# Altium footprint library Demo_Board_library_PCB.PcbLib: 41 footprints (part 1 of 3)
Each footprint in its own frame and in the unit in brackets; x right, y up, seen from the top. Pads: shape width x height; smd on the part's side, far side on the other; paste and mask are expansions set on the pad; w line width, h text height; cw(c..) or ccw(c..) is an arc to the next point about the centre after c.
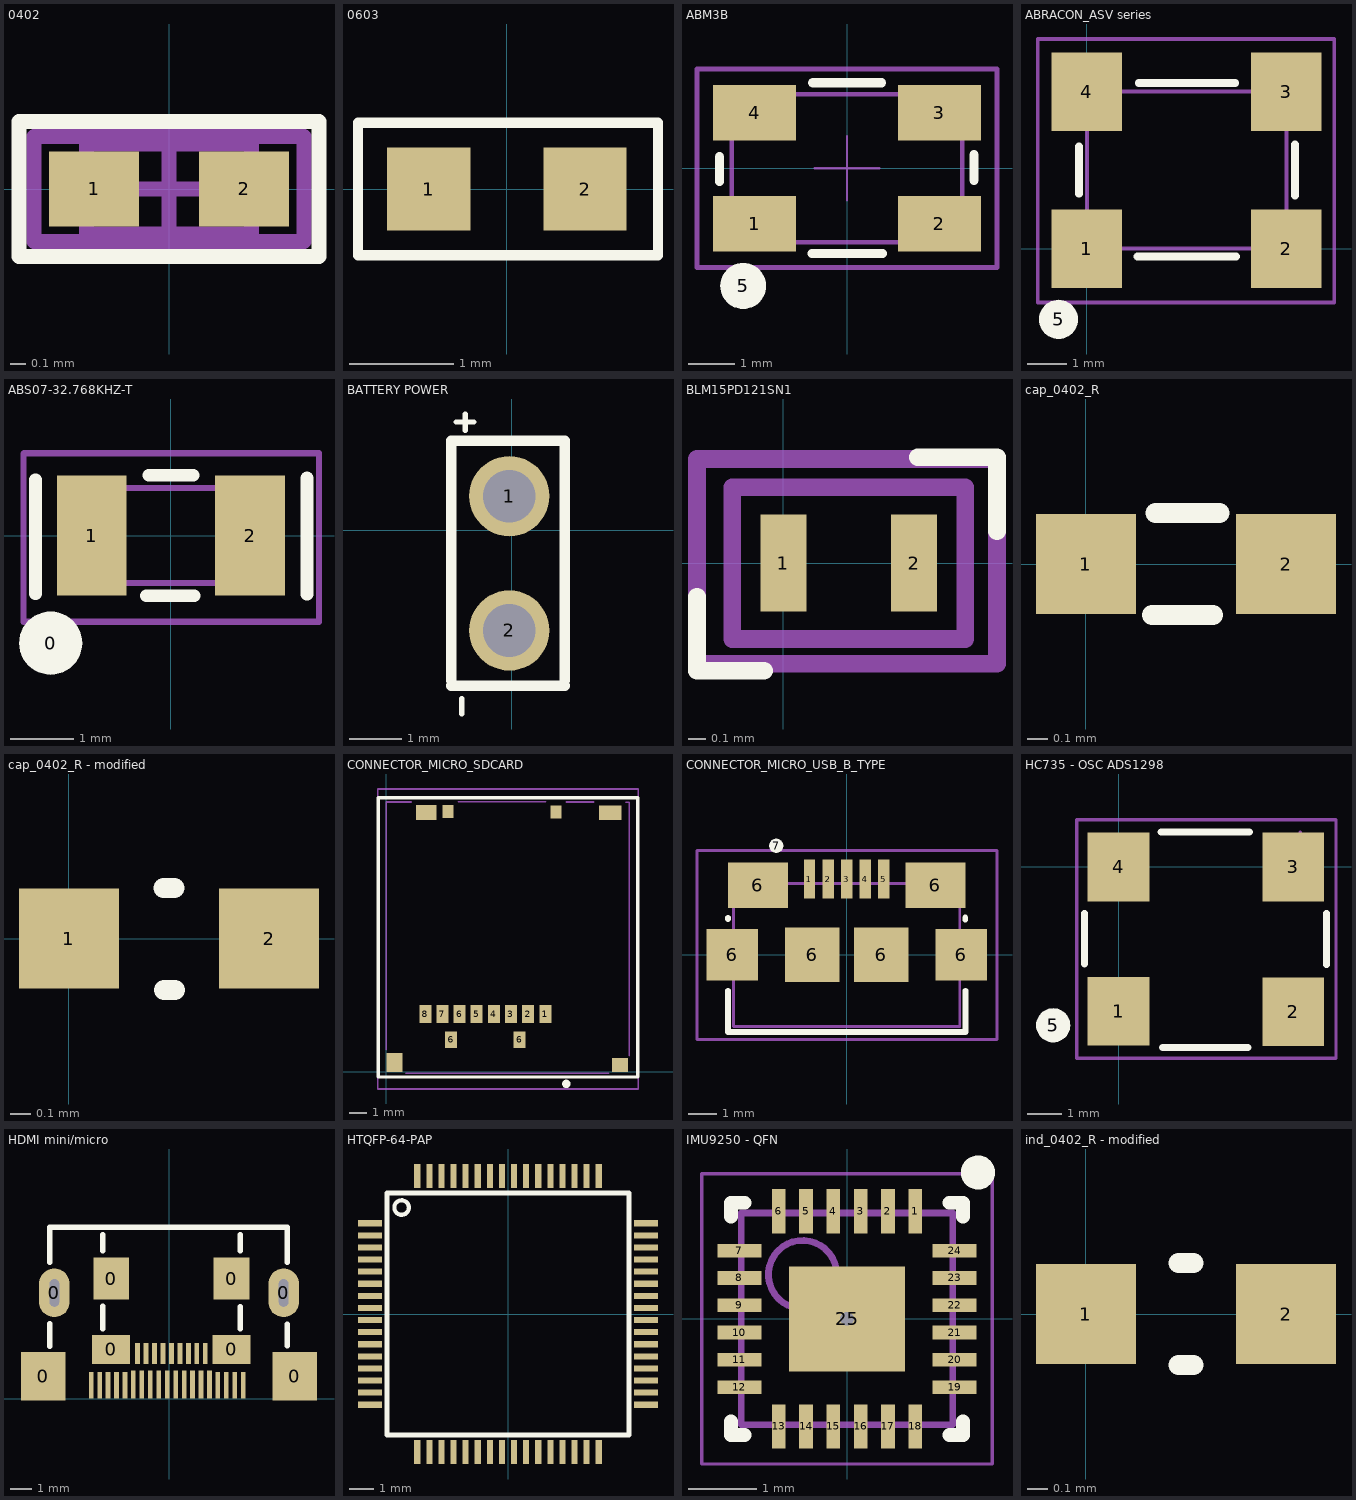
[diagram p0: the footprints below, top view; thin cyan lines are the x and y axes]

## 0402 [mm] "Chip Capacitor, Body 1.0x0.5mm, IPC High Density"
height 1.3
pads (2):
  rect 0.6x0.5 smd: 1(-0.5,0) 2(0.5,0)
Top Overlay:
  lines w0.1: -1,-0.45 -1,0.45 1,0.45 1,-0.45 -1,-0.45
Mechanical 13:
  lines w0.1: -0.55,-0.3 -0.55,0.3 0.55,0.3 0.55,-0.3 -0.55,-0.3
Mechanical 15:
  lines w0.1: -0.3,0 0.3,0 ; 0,-0.3 0,0.3 ; -0.9,-0.35 -0.9,0.35 0.9,0.35 0.9,-0.35 -0.9,-0.35
3D body: height 1.3, standoff 0, extent -0.55,-0.3 0.55,0.3

## 0603 [mm]
pads (2):
  rect 0.8x0.8 smd: 1(-0.75,0) 2(0.75,0)
Top Overlay:
  lines w0.1: -1.428,-0.635 -1.428,0.635 1.45,0.635 1.45,-0.635 -1.428,-0.635

## ABM3B [mm] "Footprint oscillatore ABM3B-8.000MHZ-B2-T del micro"
pads (5):
  rect 1.8x1.2 smd mask+0.2: 1(-2,-1.2) 2(2,-1.2) 3(2,1.2) 4(-2,1.2)
  round 1 on Top Overlay mask+0.2: 5(-2.25,-2.55)
Top Overlay:
  lines w0.2: -2.76,-0.29 -2.76,0.25 ; -0.76,-1.85 0.77,-1.85 ; -0.74,1.85 0.75,1.85 ; 2.75,-0.26 2.75,0.29
Mechanical 13:
  lines w0.1: -2.5,-1.6 2.5,-1.6 2.5,1.6 0.05,1.6 -2.5,1.6 -2.5,-1.6
Mechanical 15:
  lines w0.05: -0.7,0 0,0 ; 0,-0.7 0,0 ; 0,0.7 0,0 ; 0.7,0 0,0
  lines w0.1: -3.25,-2.15 -3.25,2.15 3.25,2.15 3.25,1.79 3.25,-2.15 -3.25,-2.15
3D body: height 1.1, standoff 0, extent -2.499,-1.599 2.499,1.599

## ABRACON_ASV series [mm] "Oscillatore CEREBRO"
pads (5):
  rect 1.8x2 smd mask+0.2: 1(0,0) 2(5.08,0) 3(5.08,4) 4(0,4)
  round 1 on Top Overlay mask+0.2: 5(-0.72,-1.8)
Top Overlay:
  lines w0.2: -0.2,1.4 -0.2,2.6 ; 1.29,-0.2 3.8,-0.2 ; 1.32,4.22 3.78,4.22 ; 5.3,1.35 5.3,2.65
Mechanical 13:
  lines w0.1: 0,0 0,4 5.08,4 5.08,0 0,0
Mechanical 15:
  lines w0.1: -1.25,-1.37 -1.25,5.34 6.3,5.34 6.3,-1.37 4.485,-1.37 0.415,-1.37 -1.25,-1.37
3D body: height 1.8, standoff 0, extent -0.05,-0.05 5.13,4.05

## ABS07-32.768KHZ-T [mm] "ABS07-32.768KHZ-T per micro"
pads (3):
  round 1 on Top Overlay mask+0.2: 0(-1.9,-1.7)
  rect 1.1x1.9 smd mask+0.2: 1(-1.25,0) 2(1.25,0)
Top Overlay:
  lines w0.2: -2.14,-0.92 -2.14,0.88 ; -0.39,-0.95 0.37,-0.95 ; -0.35,0.95 0.35,0.95 ; 2.15,-0.93 2.15,0.91
Mechanical 13:
  lines w0.1: -1.25,-0.75 1.25,-0.75 1.25,0.75 -1.25,0.75 -1.25,0 -1.25,-0.75
Mechanical 15:
  lines w0.1: 2.33,-1.36 2.34,-1.36 ; 2.34,-1.36 -2.33,-1.36 -2.33,1.29 -2.32,1.3 2.34,1.3 2.34,-1.36

## BATTERY POWER [mm]
pads (2):
  round 1.524 hole 1: 1(-0.05,0.65) 2(-0.05,-1.9)
Top Overlay:
  lines w0.1: -1.056,2.058 -0.726,2.058 ; -0.955,-3.486 -0.955,-3.196 ; -0.889,1.902 -0.889,2.21
  lines w0.2: -1.15,-2.95 1,-2.95 ; -1.15,-2.85 -1.15,1.7 1,1.7 1,-2.85

## BLM15PD121SN1 [mm] "Chip Inductor, 2-Leads, Body 1,00x0,50mm, IPC Medium Density"
height 0.55
pads (2):
  rect 0.26x0.55 smd mask+0.1: 1(0,0) 2(0.74,0)
Top Overlay:
  lines w0.1: -0.49,-0.19 -0.49,-0.61 -0.11,-0.61 ; 0.76,0.6 1.21,0.6 1.21,0.18
Mechanical 13:
  lines w0.1: -0.29,-0.43 1.03,-0.43 1.03,0.26 1.03,0.43 -0.29,0.43 -0.29,0.02 -0.29,0 -0.29,-0.43
Mechanical 15:
  lines w0.1: -0.49,-0.57 1.21,-0.57 1.21,0.59 -0.49,0.59 -0.49,-0.57

## cap_0402_R [mm] "0402_R"
height 0.35
pads (2):
  rect 0.5x0.5 smd paste-0.05: 1(0,0) 2(1,0)
Top Overlay:
  lines w0.1: 0.329,-0.254 0.635,-0.254 ; 0.348,0.254 0.666,0.254
3D body: height 0.5, standoff 0, extent -0.127,-0.254 0.051,0.254
3D body: height 0.5, standoff 0, extent 0.051,-0.254 0.965,0.254
3D body: height 0.5, standoff 0, extent 0.965,-0.254 1.143,0.254

## cap_0402_R - modified [mm] "0402_R"
height 0.35
pads (2):
  rect 0.5x0.5 smd paste-0.05: 1(0,0) 2(1,0)
Top Overlay:
  lines w0.1: 0.472,0.254 0.528,0.254 ; 0.474,-0.258 0.53,-0.258
3D body: height 0.5, standoff 0, extent -0.127,-0.254 0.051,0.254
3D body: height 0.5, standoff 0, extent 0.051,-0.254 0.965,0.254
3D body: height 0.5, standoff 0, extent 0.965,-0.254 1.143,0.254

## CONNECTOR_MICRO_SDCARD [mm] "Connector micro sd with switches and fly out protection"
pads (17):
  rect 0.7x1.05 smd mask+0.2: 1(9.275,3.375) 2(8.275,3.375) 3(7.275,3.375) 4(6.275,3.375) 5(5.275,3.375) 6(4.275,3.375) 7(3.275,3.375) 8(2.275,3.375)
  rect 0.7x0.95 smd mask+0.1: 6(3.775,1.875) 6(7.775,1.875)
  round 0.5 on Top Overlay mask+0.2: 10(10.5,-0.7)
  rect 0.95x1.1 smd mask+0.1: ""(0.475,0.55)
  rect 1.2x0.85 smd mask+0.2: ""(2.32,15.13)
  rect 0.65x0.75 smd mask+0.2: ""(3.59,15.18) ""(9.91,15.16)
  rect 1.3x0.85 smd mask+0.2: ""(13.07,15.12)
  rect 0.95x0.8 smd mask+0.1: ""(13.632,0.399)
Top Overlay:
  lines w0.2: -0.481,-0.3 -0.481,1.581 -0.481,16 14.678,16 14.678,-0.3 -0.481,-0.3
Mechanical 13:
  lines w0.1: 0,1.3 0,15.74 1.44,15.74 ; 1.15,-0.08 12.97,-0.08 ; 4.2,15.75 9.3,15.75 ; 10.5,15.74 12.11,15.74 ; 13.98,15.73 14.18,15.73 14.18,0.96
Mechanical 15:
  lines w0.1: -0.5,-1 14.7,-1 14.7,16.5 -0.5,16.5 -0.5,-1
3D body: height 1.29, standoff 0, extent -0.05,-0.13 14.23,15.8

## CONNECTOR_MICRO_USB_B_TYPE [mm] "connettore micro usb B type"
pads (12):
  rect 0.4x1.35 smd: 1(-1.3,2.65) 2(-0.65,2.65) 3(0,2.65) 4(0.65,2.65) 5(1.3,2.65)
  rect 1.8x1.8 smd mask+0.2: 6(-4,0) 6(4,0)
  rect 2.1x1.6 smd mask+0.2: 6(-3.1,2.43) 6(3.1,2.43)
  rect 1.9x1.9 smd mask+0.2: 6(-1.2,0) 6(1.2,0)
  round 0.5 on Top Overlay mask+0.2: 7(-2.464,3.81)
Top Overlay:
  lines w0.2: -4.15,-1.25 -4.15,-2.69 4.15,-2.69 4.15,-1.25 ; -4.15,1.25 -4.15,1.3 ; 4.14,1.23 4.14,1.31
Mechanical 13:
  lines w0.1: 3.62,2.5 3.95,2.5 ; 3.95,2.5 3.95,0 3.95,0.03 3.95,-2.5 -3.95,-2.5 -3.95,2.5 3.95,2.5
Mechanical 15:
  lines w0.1: -5.23,-2.95 5.25,-2.95 5.25,3.65 -5.23,3.65 -5.23,-2.95
3D body: height 2.8, standoff 0, extent -4,-2.55 4,2.55

## HC735 - OSC ADS1298 [mm] "Footprint oscillatore ABM3B-8.000MHZ-B2-T del micro"
pads (5):
  rect 1.8x2 smd mask+0.2: 1(0,-4.2) 2(5.08,-4.216) 3(5.08,0) 4(0,0)
  round 1 on Top Overlay mask+0.2: 5(-1.906,-4.608)
Top Overlay:
  lines w0.2: -0.991,-2.819 -0.991,-1.346 ; 1.228,1.016 3.81,1.016 ; 1.27,-5.258 3.759,-5.258 ; 6.045,-2.845 6.045,-1.346
Mechanical 15:
  lines w0.1: -1.219,-5.563 -1.219,1.372 ; -1.194,-5.563 6.325,-5.563 ; -1.191,1.372 6.325,1.372 6.325,-5.537 ; 5.282,0.647 5.282,1.007
3D body: height 1.1, standoff 0, extent -0.025,-4.216 5.055,0

## HDMI mini/micro [mm]
height 3.45
pads (46):
  rect 2.1x2.3 smd: 0(-5.95,1.05) 0(5.95,1.05)
  rrect100% 1.45x2.3 hole 0.45 slot 1.3 at 90 deg: 0(-5.425,5) 0(5.425,5)
  rect 1.8x1.38 smd: 0(-2.735,2.32) 0(2.965,2.32)
  rect 1.7x2 smd: 0(-2.735,5.68) 0(2.965,5.68)
  rect 0.22x1.25 smd: a(-3.685,0.625) b(-3.285,0.625) c(-2.885,0.625) d(-2.485,0.625) e(-2.085,0.625) f(-1.685,0.625) g(-1.285,0.625) h(-0.885,0.625) i(-0.485,0.625) j(-0.085,0.625) k(0.315,0.625) l(0.715,0.625) m(1.115,0.625) n(1.515,0.625) o(1.915,0.625) p(2.315,0.625) q(2.715,0.625) r(3.115,0.625) s(3.515,0.625)
  rect 0.23x1 smd: a(-1.485,2.13) b(-1.085,2.13) c(-0.685,2.13) d(-0.285,2.13) e(0.115,2.13) p(0.515,2.13) q(0.915,2.13) r(1.315,2.13) s(1.715,2.13)
  rect 0.22x0.85 smd: f(-1.685,0.905) g(-1.285,0.905) h(-0.885,0.905) i(-0.485,0.905) j(-0.085,0.905) k(0.315,0.905) l(0.715,0.905) m(1.115,0.905) n(1.515,0.905) o(1.915,0.905)
Top Overlay:
  lines w0.254: -5.65,2.475 -5.65,3.55 ; -5.65,6.45 -5.65,8.1 -2.838,8.1 2.788,8.1 5.6,8.1 5.6,6.45 ; -3.135,3.305 -3.135,4.38 ; -3.135,6.98 -3.135,7.755 ; 3.365,3.305 3.365,4.355 ; 3.365,6.98 3.365,7.755 ; 5.6,2.5 5.6,3.525
Top Solder:
  rectangle: -1.9,1.375 2.125,1.575
  rectangle: 1.925,1.575 2.125,2.75
  rectangle: -1.75,1.525 -1.675,2.75
3D body: height 3.5, standoff 0, extent -5.625,0.5 5.625,8.1

## HTQFP-64-PAP [mm]
pads (64):
  rect 1x0.25 smd mask-25.4: 1(-5.7,3.75) 2(-5.7,3.25) 3(-5.7,2.75) 4(-5.7,2.25) 5(-5.7,1.75) 6(-5.7,1.25) 7(-5.7,0.75) 8(-5.7,0.25) 9(-5.7,-0.25) 10(-5.7,-0.75) 11(-5.7,-1.25) 12(-5.7,-1.75) 13(-5.7,-2.25) 14(-5.7,-2.75) 15(-5.7,-3.25) 16(-5.7,-3.75) 33(5.7,-3.75) 34(5.7,-3.25) 35(5.7,-2.75) 36(5.7,-2.25) 37(5.7,-1.75) 38(5.7,-1.25) 39(5.7,-0.75) 40(5.7,-0.25) 41(5.7,0.25) 42(5.7,0.75) 43(5.7,1.25) 44(5.7,1.75) 45(5.7,2.25) 46(5.7,2.75) 47(5.7,3.25) 48(5.7,3.75)
  rect 0.25x1 smd mask-25.4: 17(-3.75,-5.7) 18(-3.25,-5.7) 19(-2.75,-5.7) 20(-2.25,-5.7) 21(-1.75,-5.7) 22(-1.25,-5.7) 23(-0.75,-5.7) 24(-0.25,-5.7) 25(0.25,-5.7) 26(0.75,-5.7) 27(1.25,-5.7) 28(1.75,-5.7) 29(2.25,-5.7) 30(2.75,-5.7) 31(3.25,-5.7) 32(3.75,-5.7) 49(3.75,5.7) 50(3.25,5.7) 51(2.75,5.7) 52(2.25,5.7) 53(1.75,5.7) 54(1.25,5.7) 55(0.75,5.7) 56(0.25,5.7) 57(-0.25,5.7) 58(-0.75,5.7) 59(-1.25,5.7) 60(-1.75,5.7) 61(-2.25,5.7) 62(-2.75,5.7) 63(-3.25,5.7) 64(-3.75,5.7)
Top Overlay:
  circle w0.17: c-4.4,4.4 r0.3
  lines w0.203: -5,-5 5,-5 5,5 -5,5 -5,-5

## IMU9250 - QFN [mm] "QFN, 24-Leads, Body 3,00x3,00mm, Pitch 0,40mm, Thermal Pad 1,70x1,54mm, IPC Medium Density"
height 1.05
pads (25):
  rect 0.2x0.65 smd mask+0.08: 1(1,1.575) 2(0.6,1.575) 3(0.2,1.575) 4(-0.2,1.575) 5(-0.6,1.575) 6(-1,1.575) 13(-1,-1.575) 14(-0.6,-1.575) 15(-0.2,-1.575) 16(0.2,-1.575) 17(0.6,-1.575) 18(1,-1.575)
  rect 0.65x0.2 smd mask+0.08: 7(-1.575,1) 8(-1.575,0.6) 9(-1.575,0.2) 10(-1.575,-0.2) 11(-1.575,-0.6) 12(-1.575,-1) 19(1.575,-1) 20(1.575,-0.6) 21(1.575,-0.2) 22(1.575,0.2) 23(1.575,0.6) 24(1.575,1)
  rect 1.7x1.54 smd: 25(0,0)
via 0,0 diameter 0.5 hole 0.2
Top Overlay:
  circle w0.25: c1.917,2.144 r0.125
  lines w0.2: -1.7,-1.5 -1.7,-1.7 -1.5,-1.7 ; -1.7,1.5 -1.7,1.7 -1.5,1.7 ; 1.5,-1.7 1.7,-1.7 1.7,-1.5 ; 1.5,1.7 1.7,1.7 1.7,1.5
Mechanical 13:
  circle w0.1: c-0.65,0.65 r0.5
  lines w0.1: -1.55,-1.55 1.55,-1.55 1.55,1.55 -1.55,1.55 -1.55,-1.55
Mechanical 15:
  lines w0.05: -2.125,-2.125 2.125,-2.125 2.125,2.125 -2.125,2.125 -2.125,-2.125
  lines w0.1: -0.5,0 0.5,0 ; 0,-0.5 0,0.5
3D body: height 1.05, standoff 0.05, extent -1.55,-1.55 1.55,1.55

## ind_0402_R - modified [mm] "0402_R"
height 0.35
pads (2):
  rect 0.5x0.5 smd paste-0.05: 1(0,0) 2(1,0)
Top Overlay:
  lines w0.1: 0.462,-0.254 0.537,-0.254 ; 0.462,0.254 0.537,0.254
3D body: height 0.3, standoff 0, extent -0.127,-0.254 0.051,0.254
3D body: height 0.3, standoff 0, extent 0.051,-0.254 0.965,0.254
3D body: height 0.3, standoff 0, extent 0.965,-0.254 1.143,0.254